# Altium schematic symbol library MX25L3206EZUI-12G.A1.SCHLIB: 1 symbol
Pins are listed as number, name and electrical type; pins without a type are passive.

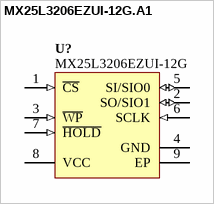
[diagram p0: symbol MX25L3206EZUI-12G.A1]

## MX25L3206EZUI-12G.A1
designator U?, comment MX25L3206EZUI-12G
FLASH SER 3V 32MB 86MHZ 8USON
pins: 1 ~{CS} (in), 2 SO/SIO1 (io), 3 ~{WP} (in), 4 GND (power), 5 SI/SIO0 (io), 6 SCLK (in), 7 ~{HOLD} (in), 8 VCC (power), 9 EP